# Altium schematic symbol library pot.SCHLIB: 122 symbols
Pins are listed as number, name and electrical type; pins without a type are passive.

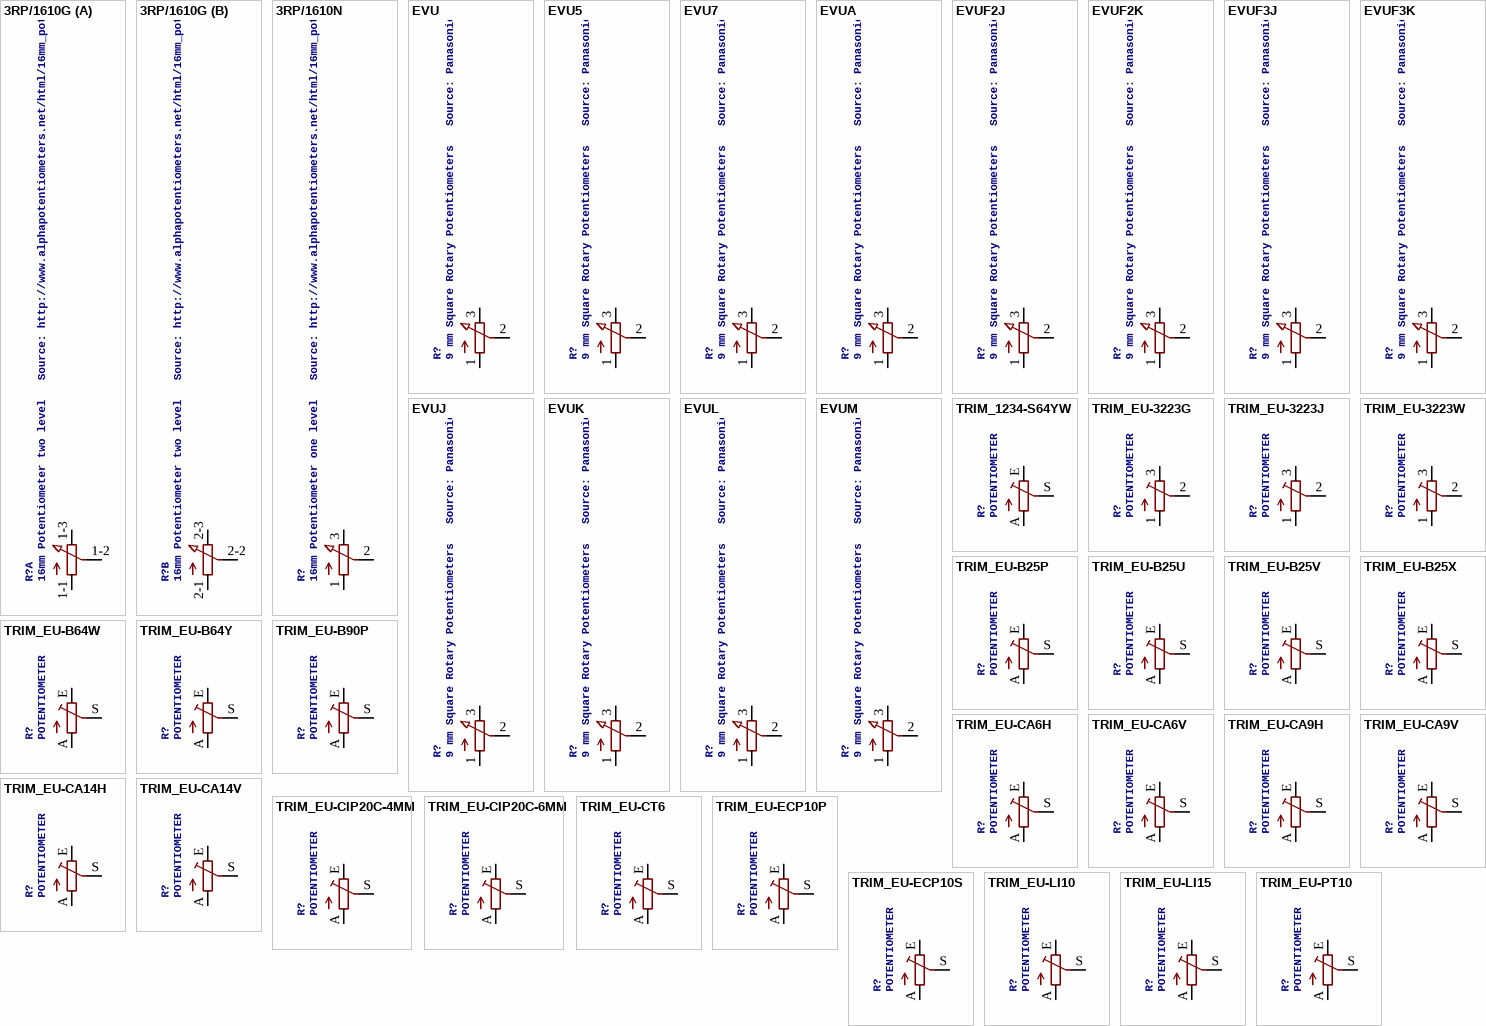
[diagram p0: symbols 3RP/1610G to TRIM_EU-PT10]

## 3RP/1610G
designator R?, comment 16mm Potentiometer two level   Source: http://www.alphapotentiometers.net/html/16mm_pot_2.html
footprint 3RP/1610G
part A pins: 1-1 A, 1-2 S, 1-3 E
part B pins: 2-1 A, 2-2 S, 2-3 E

## 3RP/1610N
designator R?, comment 16mm Potentiometer one level   Source: http://www.alphapotentiometers.net/html/16mm_pot_2.html
footprint 3RP/1610N
pins: 1 A, 2 S, 3 E

## EVU
designator R?, comment 9 mm Square Rotary Potentiometers   Source: Panasonic
footprint EVUE
pins: 1 A, 2 S, 3 E

## EVU5
designator R?, comment 9 mm Square Rotary Potentiometers   Source: Panasonic
footprint EVUEXXJ
pins: 1 A, 2 S, 3 E

## EVU7
designator R?, comment 9 mm Square Rotary Potentiometers   Source: Panasonic
footprint EVUEXK
pins: 1 A, 2 S, 3 E

## EVUA
designator R?, comment 9 mm Square Rotary Potentiometers   Source: Panasonic
footprint EVUF
pins: 1 A, 2 S, 3 E

## EVUF2J
designator R?, comment 9 mm Square Rotary Potentiometers   Source: Panasonic
footprint EVUFXJ
pins: 1 A, 2 S, 3 E

## EVUF2K
designator R?, comment 9 mm Square Rotary Potentiometers   Source: Panasonic
footprint EVUFXK
pins: 1 A, 2 S, 3 E

## EVUF3J
designator R?, comment 9 mm Square Rotary Potentiometers   Source: Panasonic
footprint EVUFXJ
pins: 1 A, 2 S, 3 E

## EVUF3K
designator R?, comment 9 mm Square Rotary Potentiometers   Source: Panasonic
footprint EVUFXK
pins: 1 A, 2 S, 3 E

## EVUJ
designator R?, comment 9 mm Square Rotary Potentiometers   Source: Panasonic
footprint EVUEXXJ
pins: 1 A, 2 S, 3 E

## EVUK
designator R?, comment 9 mm Square Rotary Potentiometers   Source: Panasonic
footprint EVUEXK
pins: 1 A, 2 S, 3 E

## EVUL
designator R?, comment 9 mm Square Rotary Potentiometers   Source: Panasonic
footprint EVUFXL
pins: 1 A, 2 S, 3 E

## EVUM
designator R?, comment 9 mm Square Rotary Potentiometers   Source: Panasonic
footprint EVUFXM
pins: 1 A, 2 S, 3 E

## TRIM_1234-S64YW
designator R?, comment POTENTIOMETER
footprint S64YW
pins: A, E, S, S@1

## TRIM_EU-3223G
designator R?, comment POTENTIOMETER
footprint 3223G
pins: 1 A, 2 S, 3 E

## TRIM_EU-3223J
designator R?, comment POTENTIOMETER
footprint 3223J
pins: 1 A, 2 S, 3 E

## TRIM_EU-3223W
designator R?, comment POTENTIOMETER
footprint 3223W
pins: 1 A, 2 S, 3 E

## TRIM_EU-B25P
designator R?, comment POTENTIOMETER
footprint B25P
pins: A, E, S

## TRIM_EU-B25U
designator R?, comment POTENTIOMETER
footprint B25U
pins: A, E, S

## TRIM_EU-B25V
designator R?, comment POTENTIOMETER
footprint B25V
pins: A, E, S

## TRIM_EU-B25X
designator R?, comment POTENTIOMETER
footprint B25X
pins: A, E, S

## TRIM_EU-B64W
designator R?, comment POTENTIOMETER
footprint B64W
pins: A, E, S

## TRIM_EU-B64Y
designator R?, comment POTENTIOMETER
footprint B64Y
pins: A, E, S

## TRIM_EU-B90P
designator R?, comment POTENTIOMETER
footprint SP19L
pins: A, E, S

## TRIM_EU-CA6H
designator R?, comment POTENTIOMETER
footprint CA6H
pins: A, E, S

## TRIM_EU-CA6V
designator R?, comment POTENTIOMETER
footprint CA6V
pins: A, E, S

## TRIM_EU-CA9H
designator R?, comment POTENTIOMETER
footprint CA9H
pins: A, E, S

## TRIM_EU-CA9V
designator R?, comment POTENTIOMETER
footprint CA9V
pins: A, E, S

## TRIM_EU-CA14H
designator R?, comment POTENTIOMETER
footprint CA14H
pins: A, E, S

## TRIM_EU-CA14V
designator R?, comment POTENTIOMETER
footprint CA14V
pins: A, E, S

## TRIM_EU-CIP20C-4MM
designator R?, comment POTENTIOMETER
footprint CIP20C-4MM
pins: A, E, S

## TRIM_EU-CIP20C-6MM
designator R?, comment POTENTIOMETER
footprint CIP20C-6MM
pins: A, E, S

## TRIM_EU-CT6
designator R?, comment POTENTIOMETER
footprint CT6
pins: A, E, S

## TRIM_EU-ECP10P
designator R?, comment POTENTIOMETER
footprint ECP10P
pins: A, E, S

## TRIM_EU-ECP10S
designator R?, comment POTENTIOMETER
footprint ECP10S
pins: A, E, S

## TRIM_EU-LI10
designator R?, comment POTENTIOMETER
footprint LI10
pins: A, E, S

## TRIM_EU-LI15
designator R?, comment POTENTIOMETER
footprint LI15
pins: A, E, S

## TRIM_EU-PT10
designator R?, comment POTENTIOMETER
footprint PT-10
pins: A, E, S

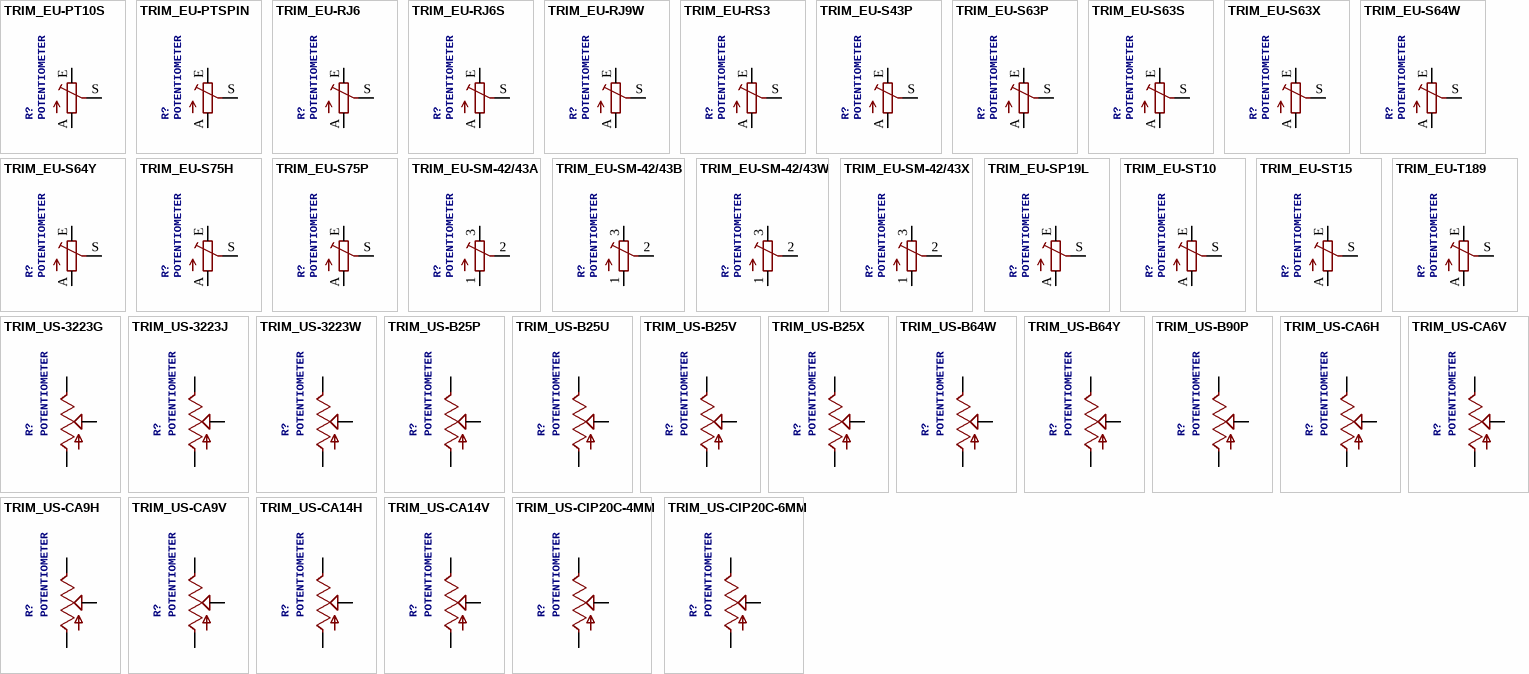
[diagram p1: symbols TRIM_EU-PT10S to TRIM_US-CIP20C-6MM]

## TRIM_EU-PT10S
designator R?, comment POTENTIOMETER
footprint PT-10S
pins: A, E, S

## TRIM_EU-PTSPIN
designator R?, comment POTENTIOMETER
footprint PT-SPIN
pins: A, E, S

## TRIM_EU-RJ6
designator R?, comment POTENTIOMETER
footprint RJ6
pins: A, E, S

## TRIM_EU-RJ6S
designator R?, comment POTENTIOMETER
footprint RJ6S
pins: A, E, S

## TRIM_EU-RJ9W
designator R?, comment POTENTIOMETER
footprint RJ9W
pins: A, E, S

## TRIM_EU-RS3
designator R?, comment POTENTIOMETER
footprint RS3
pins: A, E, S

## TRIM_EU-S43P
designator R?, comment POTENTIOMETER
footprint SP19L
pins: A, E, S

## TRIM_EU-S63P
designator R?, comment POTENTIOMETER
footprint S63P
pins: A, E, S

## TRIM_EU-S63S
designator R?, comment POTENTIOMETER
footprint S63S
pins: A, E, S

## TRIM_EU-S63X
designator R?, comment POTENTIOMETER
footprint S63X
pins: A, E, S

## TRIM_EU-S64W
designator R?, comment POTENTIOMETER
footprint S64W
pins: A, E, S

## TRIM_EU-S64Y
designator R?, comment POTENTIOMETER
footprint S64Y
pins: A, E, S

## TRIM_EU-S75H
designator R?, comment POTENTIOMETER
footprint S75H
pins: A, E, S

## TRIM_EU-S75P
designator R?, comment POTENTIOMETER
footprint S75P
pins: A, E, S

## TRIM_EU-SM-42/43A
designator R?, comment POTENTIOMETER
footprint SM-42/43A
pins: 1 A, 2 S, 3 E

## TRIM_EU-SM-42/43B
designator R?, comment POTENTIOMETER
footprint SM-42/43B
pins: 1 A, 2 S, 3 E

## TRIM_EU-SM-42/43W
designator R?, comment POTENTIOMETER
footprint SM-42/43W
pins: 1 A, 2 S, 3 E

## TRIM_EU-SM-42/43X
designator R?, comment POTENTIOMETER
footprint SM-42/43X
pins: 1 A, 2 S, 3 E

## TRIM_EU-SP19L
designator R?, comment POTENTIOMETER
footprint SP19L
pins: A, E, S

## TRIM_EU-ST10
designator R?, comment POTENTIOMETER
footprint ST10
pins: A, E, S

## TRIM_EU-ST15
designator R?, comment POTENTIOMETER
footprint ST15
pins: A, E, S

## TRIM_EU-T189
designator R?, comment POTENTIOMETER
footprint SP19LKN
pins: A, E, S

## TRIM_US-3223G
designator R?, comment POTENTIOMETER
footprint 3223G
pins: 1 A, 2 S, 3 E

## TRIM_US-3223J
designator R?, comment POTENTIOMETER
footprint 3223J
pins: 1 A, 2 S, 3 E

## TRIM_US-3223W
designator R?, comment POTENTIOMETER
footprint 3223W
pins: 1 A, 2 S, 3 E

## TRIM_US-B25P
designator R?, comment POTENTIOMETER
footprint B25P
pins: A, E, S

## TRIM_US-B25U
designator R?, comment POTENTIOMETER
footprint B25U
pins: A, E, S

## TRIM_US-B25V
designator R?, comment POTENTIOMETER
footprint B25V
pins: A, E, S

## TRIM_US-B25X
designator R?, comment POTENTIOMETER
footprint B25X
pins: A, E, S

## TRIM_US-B64W
designator R?, comment POTENTIOMETER
footprint B64W
pins: A, E, S

## TRIM_US-B64Y
designator R?, comment POTENTIOMETER
footprint B64Y
pins: A, E, S

## TRIM_US-B90P
designator R?, comment POTENTIOMETER
footprint SP19L
pins: A, E, S

## TRIM_US-CA6H
designator R?, comment POTENTIOMETER
footprint CA6H
pins: A, E, S

## TRIM_US-CA6V
designator R?, comment POTENTIOMETER
footprint CA6V
pins: A, E, S

## TRIM_US-CA9H
designator R?, comment POTENTIOMETER
footprint CA9H
pins: A, E, S

## TRIM_US-CA9V
designator R?, comment POTENTIOMETER
footprint CA9V
pins: A, E, S

## TRIM_US-CA14H
designator R?, comment POTENTIOMETER
footprint CA14H
pins: A, E, S

## TRIM_US-CA14V
designator R?, comment POTENTIOMETER
footprint CA14V
pins: A, E, S

## TRIM_US-CIP20C-4MM
designator R?, comment POTENTIOMETER
footprint CIP20C-4MM
pins: A, E, S

## TRIM_US-CIP20C-6MM
designator R?, comment POTENTIOMETER
footprint CIP20C-6MM
pins: A, E, S

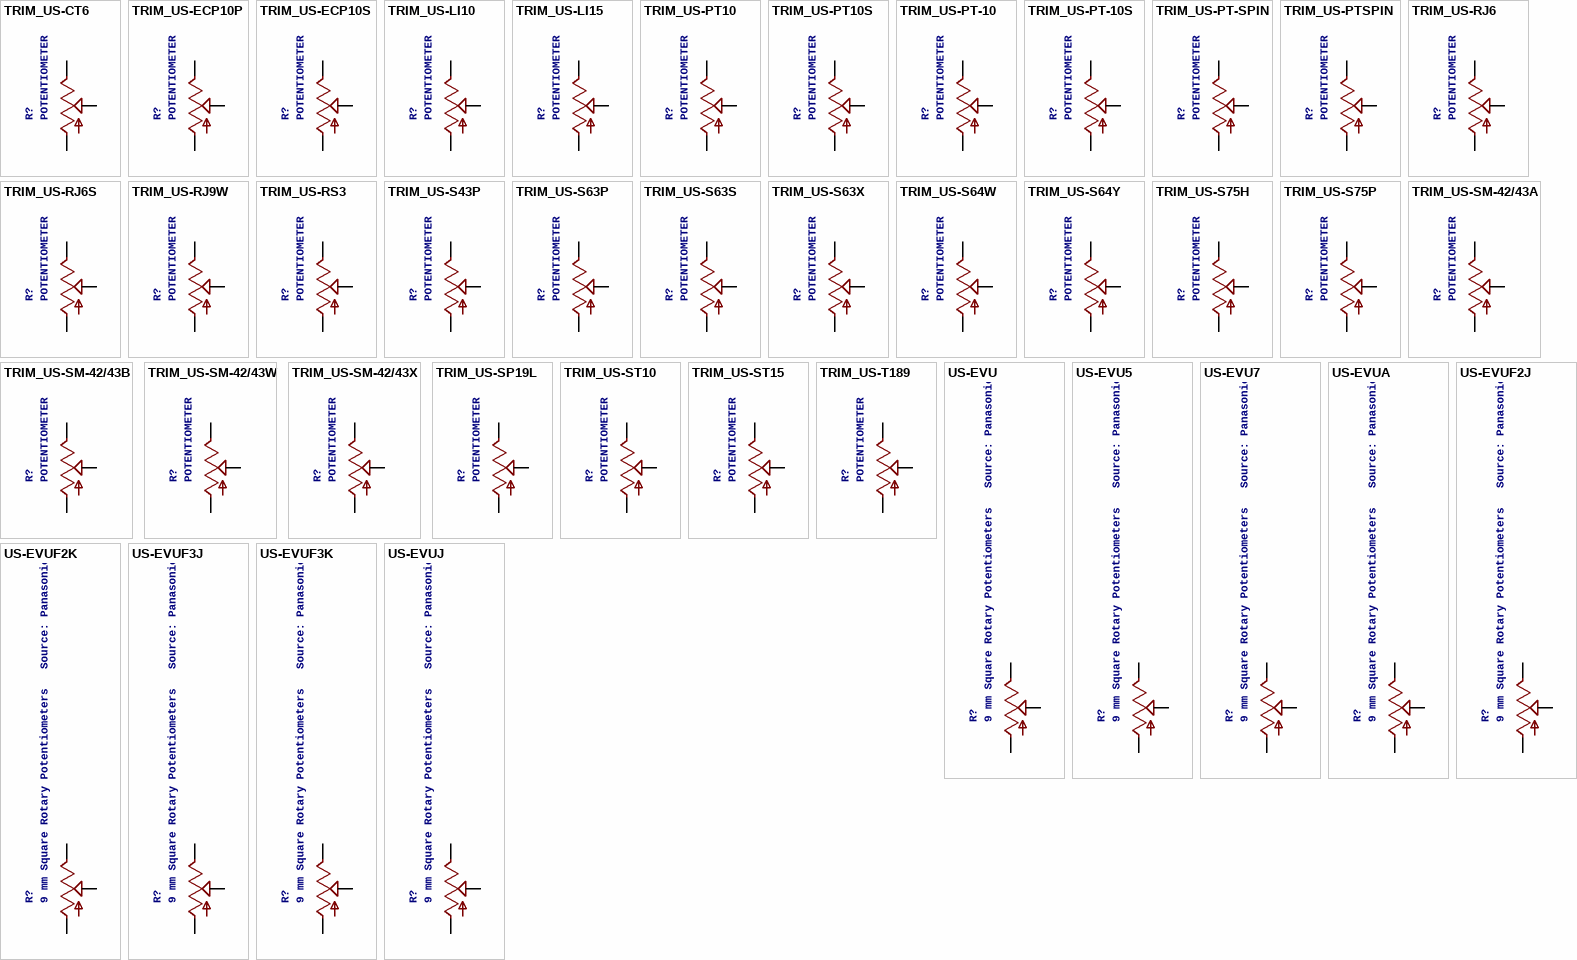
[diagram p2: symbols TRIM_US-CT6 to US-EVUJ]

## TRIM_US-CT6
designator R?, comment POTENTIOMETER
footprint CT6
pins: A, E, S

## TRIM_US-ECP10P
designator R?, comment POTENTIOMETER
footprint ECP10P
pins: A, E, S

## TRIM_US-ECP10S
designator R?, comment POTENTIOMETER
footprint ECP10S
pins: A, E, S

## TRIM_US-LI10
designator R?, comment POTENTIOMETER
footprint LI10
pins: A, E, S

## TRIM_US-LI15
designator R?, comment POTENTIOMETER
footprint LI15
pins: A, E, S

## TRIM_US-PT10
designator R?, comment POTENTIOMETER
footprint PT-10
pins: A, E, S

## TRIM_US-PT10S
designator R?, comment POTENTIOMETER
footprint PT-10S
pins: A, E, S

## TRIM_US-PT-10
designator R?, comment POTENTIOMETER
footprint PT-10
pins: A, E, S

## TRIM_US-PT-10S
designator R?, comment POTENTIOMETER
footprint PT-10S
pins: A, E, S

## TRIM_US-PT-SPIN
designator R?, comment POTENTIOMETER
footprint PT-SPIN
pins: A, E, S

## TRIM_US-PTSPIN
designator R?, comment POTENTIOMETER
footprint PT-SPIN
pins: A, E, S

## TRIM_US-RJ6
designator R?, comment POTENTIOMETER
footprint RJ6
pins: A, E, S

## TRIM_US-RJ6S
designator R?, comment POTENTIOMETER
footprint RJ6S
pins: A, E, S

## TRIM_US-RJ9W
designator R?, comment POTENTIOMETER
footprint RJ9W
pins: A, E, S

## TRIM_US-RS3
designator R?, comment POTENTIOMETER
footprint RS3
pins: A, E, S

## TRIM_US-S43P
designator R?, comment POTENTIOMETER
footprint SP19L
pins: A, E, S

## TRIM_US-S63P
designator R?, comment POTENTIOMETER
footprint S63P
pins: A, E, S

## TRIM_US-S63S
designator R?, comment POTENTIOMETER
footprint S63S
pins: A, E, S

## TRIM_US-S63X
designator R?, comment POTENTIOMETER
footprint S63X
pins: A, E, S

## TRIM_US-S64W
designator R?, comment POTENTIOMETER
footprint S64W
pins: A, E, S

## TRIM_US-S64Y
designator R?, comment POTENTIOMETER
footprint S64Y
pins: A, E, S

## TRIM_US-S75H
designator R?, comment POTENTIOMETER
footprint S75H
pins: A, E, S

## TRIM_US-S75P
designator R?, comment POTENTIOMETER
footprint S75P
pins: A, E, S

## TRIM_US-SM-42/43A
designator R?, comment POTENTIOMETER
footprint SM-42/43A
pins: 1 A, 2 S, 3 E

## TRIM_US-SM-42/43B
designator R?, comment POTENTIOMETER
footprint SM-42/43B
pins: 1 A, 2 S, 3 E

## TRIM_US-SM-42/43W
designator R?, comment POTENTIOMETER
footprint SM-42/43W
pins: 1 A, 2 S, 3 E

## TRIM_US-SM-42/43X
designator R?, comment POTENTIOMETER
footprint SM-42/43X
pins: 1 A, 2 S, 3 E

## TRIM_US-SP19L
designator R?, comment POTENTIOMETER
footprint SP19L
pins: A, E, S

## TRIM_US-ST10
designator R?, comment POTENTIOMETER
footprint ST10
pins: A, E, S

## TRIM_US-ST15
designator R?, comment POTENTIOMETER
footprint ST15
pins: A, E, S

## TRIM_US-T189
designator R?, comment POTENTIOMETER
footprint SP19LKN
pins: A, E, S

## US-EVU
designator R?, comment 9 mm Square Rotary Potentiometers   Source: Panasonic
footprint EVUE
pins: 1 A, 2 S, 3 E

## US-EVU5
designator R?, comment 9 mm Square Rotary Potentiometers   Source: Panasonic
footprint EVUEXXJ
pins: 1 A, 2 S, 3 E

## US-EVU7
designator R?, comment 9 mm Square Rotary Potentiometers   Source: Panasonic
footprint EVUEXK
pins: 1 A, 2 S, 3 E

## US-EVUA
designator R?, comment 9 mm Square Rotary Potentiometers   Source: Panasonic
footprint EVUF
pins: 1 A, 2 S, 3 E

## US-EVUF2J
designator R?, comment 9 mm Square Rotary Potentiometers   Source: Panasonic
footprint EVUFXJ
pins: 1 A, 2 S, 3 E

## US-EVUF2K
designator R?, comment 9 mm Square Rotary Potentiometers   Source: Panasonic
footprint EVUFXK
pins: 1 A, 2 S, 3 E

## US-EVUF3J
designator R?, comment 9 mm Square Rotary Potentiometers   Source: Panasonic
footprint EVUFXJ
pins: 1 A, 2 S, 3 E

## US-EVUF3K
designator R?, comment 9 mm Square Rotary Potentiometers   Source: Panasonic
footprint EVUFXK
pins: 1 A, 2 S, 3 E

## US-EVUJ
designator R?, comment 9 mm Square Rotary Potentiometers   Source: Panasonic
footprint EVUEXXJ
pins: 1 A, 2 S, 3 E

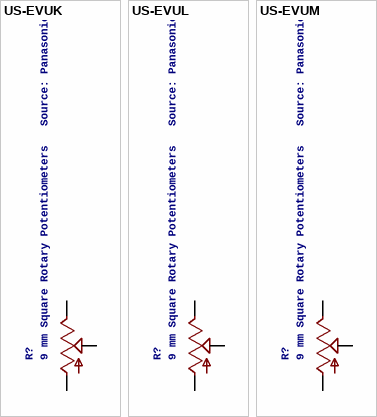
[diagram p3: symbols US-EVUK to US-EVUM]

## US-EVUK
designator R?, comment 9 mm Square Rotary Potentiometers   Source: Panasonic
footprint EVUEXK
pins: 1 A, 2 S, 3 E

## US-EVUL
designator R?, comment 9 mm Square Rotary Potentiometers   Source: Panasonic
footprint EVUFXL
pins: 1 A, 2 S, 3 E

## US-EVUM
designator R?, comment 9 mm Square Rotary Potentiometers   Source: Panasonic
footprint EVUFXM
pins: 1 A, 2 S, 3 E